# Altium footprint library FLEX-CHIP_FUSE_1210.PcbLib: 1 footprints
Each footprint in its own frame and in the unit in brackets; x right, y up, seen from the top. Pads: shape width x height; smd on the part's side, far side on the other; paste and mask are expansions set on the pad; w line width, h text height; cw(c..) or ccw(c..) is an arc to the next point about the centre after c.
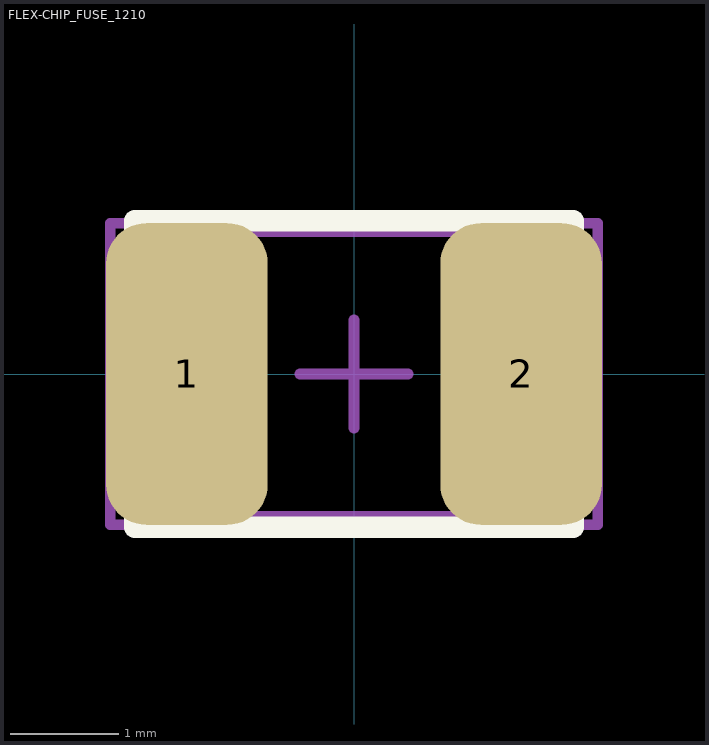
[diagram p0: the footprint, top view; thin cyan lines are the x and y axes]

## FLEX-CHIP_FUSE_1210 [mm]
pads (2):
  rrect50% 1.5x2.8 smd paste-0.2 mask-0.102: 1(-1.55,0) 2(1.55,0)
Top Overlay:
  lines w0.2: -2.032,-1.422 2.032,-1.422 2.032,1.422 -2.032,1.422 -2.032,-1.422
Mechanical 13:
  lines w0.1: -1.675,-1.32 -1.675,1.32 1.675,1.32 1.675,-1.32 -1.675,-1.32
Mechanical 15:
  lines w0.1: -0.5,0 0.5,0 ; 0,-0.5 0,0.5 ; -2.261,-1.397 -2.261,1.397 2.235,1.397 2.261,1.397 2.261,-1.397 -2.261,-1.397 ; -2,-1.4 -2,1.397 2,1.397 2,-1.4 -2,-1.4
3D body: height 0.71, standoff 0, extent -1.675,-1.32 1.675,1.32